# EAGLE library part AT45DB (library stan)
Atmel DataFlash AT45DB Series Package: NOT VERIFIED
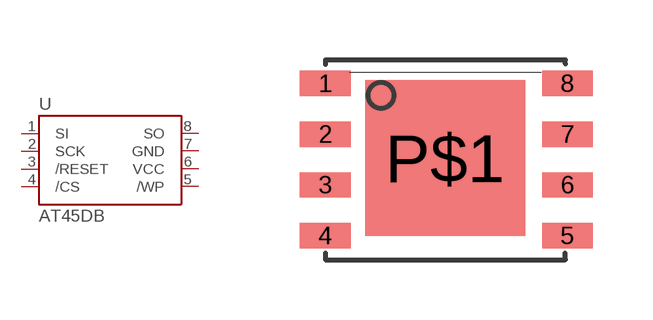
[diagram p8: symbol with the pads of MLF(VDFN)-8; footprint MLF(VDFN)-8]

Designator prefix -

## AT45DB321D  [MLF(VDFN)-8]
1  SI
2  SCK
3  /RESET
4  /CS
5  /WP
6  VCC
7  GND
8  SO

## Footprint MLF(VDFN)-8 (pad centres in mm)
smd 1.27 x 0.635: 1 0,4.31; 2 0,3.04; 3 0,1.77; 4 0,0.5; 5 6.05,0.5; 6 6.05,1.77; 7 6.05,3.04; 8 6.05,4.31
smd 4 x 3.9: P$1 2.991,2.44